# Altium schematic symbol library WL-SIRW.SchLib: 4 symbols
Pins are listed as number, name and electrical type; pins without a type are passive.

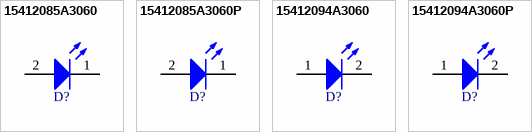
[diagram p0: symbols 15412085A3060 to 15412094A3060P]

## 15412085A3060
designator D?, comment Infrared, 1.4V, 30°  (value not drawn)
WL-SIRW SMT Infrared Reverse Mount Waterclear Dome, size 1206, Infrared, 1.4V, 30°; Manufacturer Part Number: 15412085A3060; Manufacturer: Wurth Elektronik; Case/Size Code: 1206; Centroid Wavelength: 845nm; Chip Technology: AlGaAs; Forward Voltage Max: 2V; Peak Wavelength: 850nm; Radiant Intensity: 20mW/sr; Radiant Intensity Min: 15mW/sr; Category: Infrared LEDs; Match Code: WL-SIRW; ComponentLink1Description: Website Link; ComponentLink1URL: https://www.we-online.com/redexpert/article/15412085A3060?ad; ComponentLink2Description: Datasheet Link; ComponentLink2URL: https://www.we-online.com/redexpert/spec/15412085A3060?ad; Mount: Surface Mount; Operating Temperature Max: 85°C; Operating Temperature Min: -40°C; Packaging: Tape and Reel; Length: 3.2mm; Width: 1.6mm; Height: 1.85mm; Emitting Color: Infrared; Forward Voltage: 1.4V; Viewing Angle: 30°
footprint WL-SIRW_1206
simulation model 1206_15412085A3060
pins: 1 K, 2 A

## 15412085A3060P
designator D?, comment Infrared, 1.4V, 30°  (value not drawn)
WL-SIRW SMT Infrared Reverse Mount Waterclear Dome, size 1206, Infrared, 1.4V, 30°; Manufacturer Part Number: 15412085A3060P; Manufacturer: Wurth Elektronik; Case/Size Code: 1206; Centroid Wavelength: 845nm; Chip Technology: AlGaAs; Forward Voltage Max: 2V; Peak Wavelength: 850nm; Radiant Intensity: 20mW/sr; Radiant Intensity Min: 15mW/sr; Category: Infrared LEDs; Match Code: WL-SIRW; ComponentLink1Description: Website Link; ComponentLink1URL: https://www.we-online.com/redexpert/article/15412085A3060P?ad; ComponentLink2Description: Datasheet Link; ComponentLink2URL: https://www.we-online.com/redexpert/spec/15412085A3060P?ad; Mount: Surface Mount; Operating Temperature Max: 85°C; Operating Temperature Min: -40°C; Packaging: Tape and Reel; Length: 3.2mm; Width: 1.6mm; Height: 1.85mm; Emitting Color: Infrared; Forward Voltage: 1.4V; Viewing Angle: 30°
footprint WL-SIRW_1206P
simulation model 1206_15412085A3060P
pins: 1 K, 2 A

## 15412094A3060
designator D?, comment Infrared, 1.2V, 30°  (value not drawn)
WL-SIRW SMT Infrared Reverse Mount Waterclear Dome, size 1206, Infrared, 1.2V, 30°; Manufacturer Part Number: 15412094A3060; Manufacturer: Wurth Elektronik; Case/Size Code: 1206; Centroid Wavelength: 940nm; Chip Technology: AlGaAs; Forward Voltage Max: 1.7V; Radiant Intensity: 5mW/sr; Radiant Intensity Min: 2mW/sr; Category: Infrared LEDs; Match Code: WL-SIRW; ComponentLink1Description: Website Link; ComponentLink1URL: https://www.we-online.com/redexpert/article/15412094A3060?ad; ComponentLink2Description: Datasheet Link; ComponentLink2URL: https://www.we-online.com/redexpert/spec/15412094A3060?ad; Mount: Surface Mount; Operating Temperature Max: 85°C; Operating Temperature Min: -40°C; Packaging: Tape and Reel; Length: 3.2mm; Width: 1.6mm; Height: 1.85mm; Emitting Color: Infrared; Forward Voltage: 1.2V; Peak Wavelength: 940nm; Viewing Angle: 30°
footprint WL-SIRW_1206
simulation model 1206_15412094A3060
pins: 1 A, 2 K

## 15412094A3060P
designator D?, comment Infrared, 1.2V, 30°  (value not drawn)
WL-SIRW SMT Infrared Reverse Mount Waterclear Dome, size 1206, Infrared, 1.2V, 30°; Manufacturer Part Number: 15412094A3060P; Manufacturer: Wurth Elektronik; Case/Size Code: 1206; Centroid Wavelength: 940nm; Chip Technology: AlGaAs; Forward Voltage Max: 1.7V; Radiant Intensity: 5mW/sr; Radiant Intensity Min: 2mW/sr; Category: Infrared LEDs; Match Code: WL-SIRW; ComponentLink1Description: Website Link; ComponentLink1URL: https://www.we-online.com/redexpert/article/15412094A3060P?ad; ComponentLink2Description: Datasheet Link; ComponentLink2URL: https://www.we-online.com/redexpert/spec/15412094A3060P?ad; Mount: Surface Mount; Operating Temperature Max: 85°C; Operating Temperature Min: -40°C; Packaging: Tape and Reel; Length: 3.2mm; Width: 1.6mm; Height: 1.85mm; Emitting Color: Infrared; Forward Voltage: 1.2V; Peak Wavelength: 940nm; Viewing Angle: 30°
footprint WL-SIRW_1206P
simulation model 1206_15412094A3060P
pins: 1 A, 2 K